# EAGLE library part IC_ADS1115 (library akita)
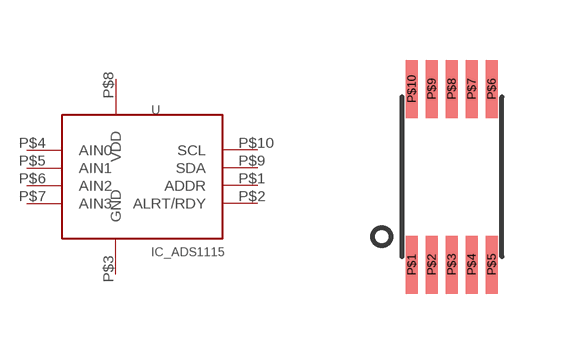
[diagram p107: symbol with the pads of MSOP10; footprint MSOP10]

Designator prefix -

## IC_ADS1115DGS  [MSOP10]
P$1  ADDR
P$2  ALRT/RDY
P$3  GND
P$4  AIN0
P$5  AIN1
P$6  AIN2
P$7  AIN3
P$8  VDD
P$9  SDA
P$10  SCL

## Footprint MSOP10 (pad centres in mm)
MSOP10, 0.5mm pitch, W=5.0mm
smd 0.3 x 1.45: P$1 -1.25,-2.2; P$2 -0.75,-2.2; P$3 -0.25,-2.2; P$4 0.25,-2.2; P$5 0.75,-2.2; P$6 0.75,2.2; P$7 0.25,2.2; P$8 -0.25,2.2; P$9 -0.75,2.2; P$10 -1.25,2.2